# Altium footprint library Quadcopter.PcbLib: 41 footprints (part 2 of 3)
Each footprint in its own frame and in the unit in brackets; x right, y up, seen from the top. Pads: shape width x height; smd on the part's side, far side on the other; paste and mask are expansions set on the pad; w line width, h text height; cw(c..) or ccw(c..) is an arc to the next point about the centre after c.
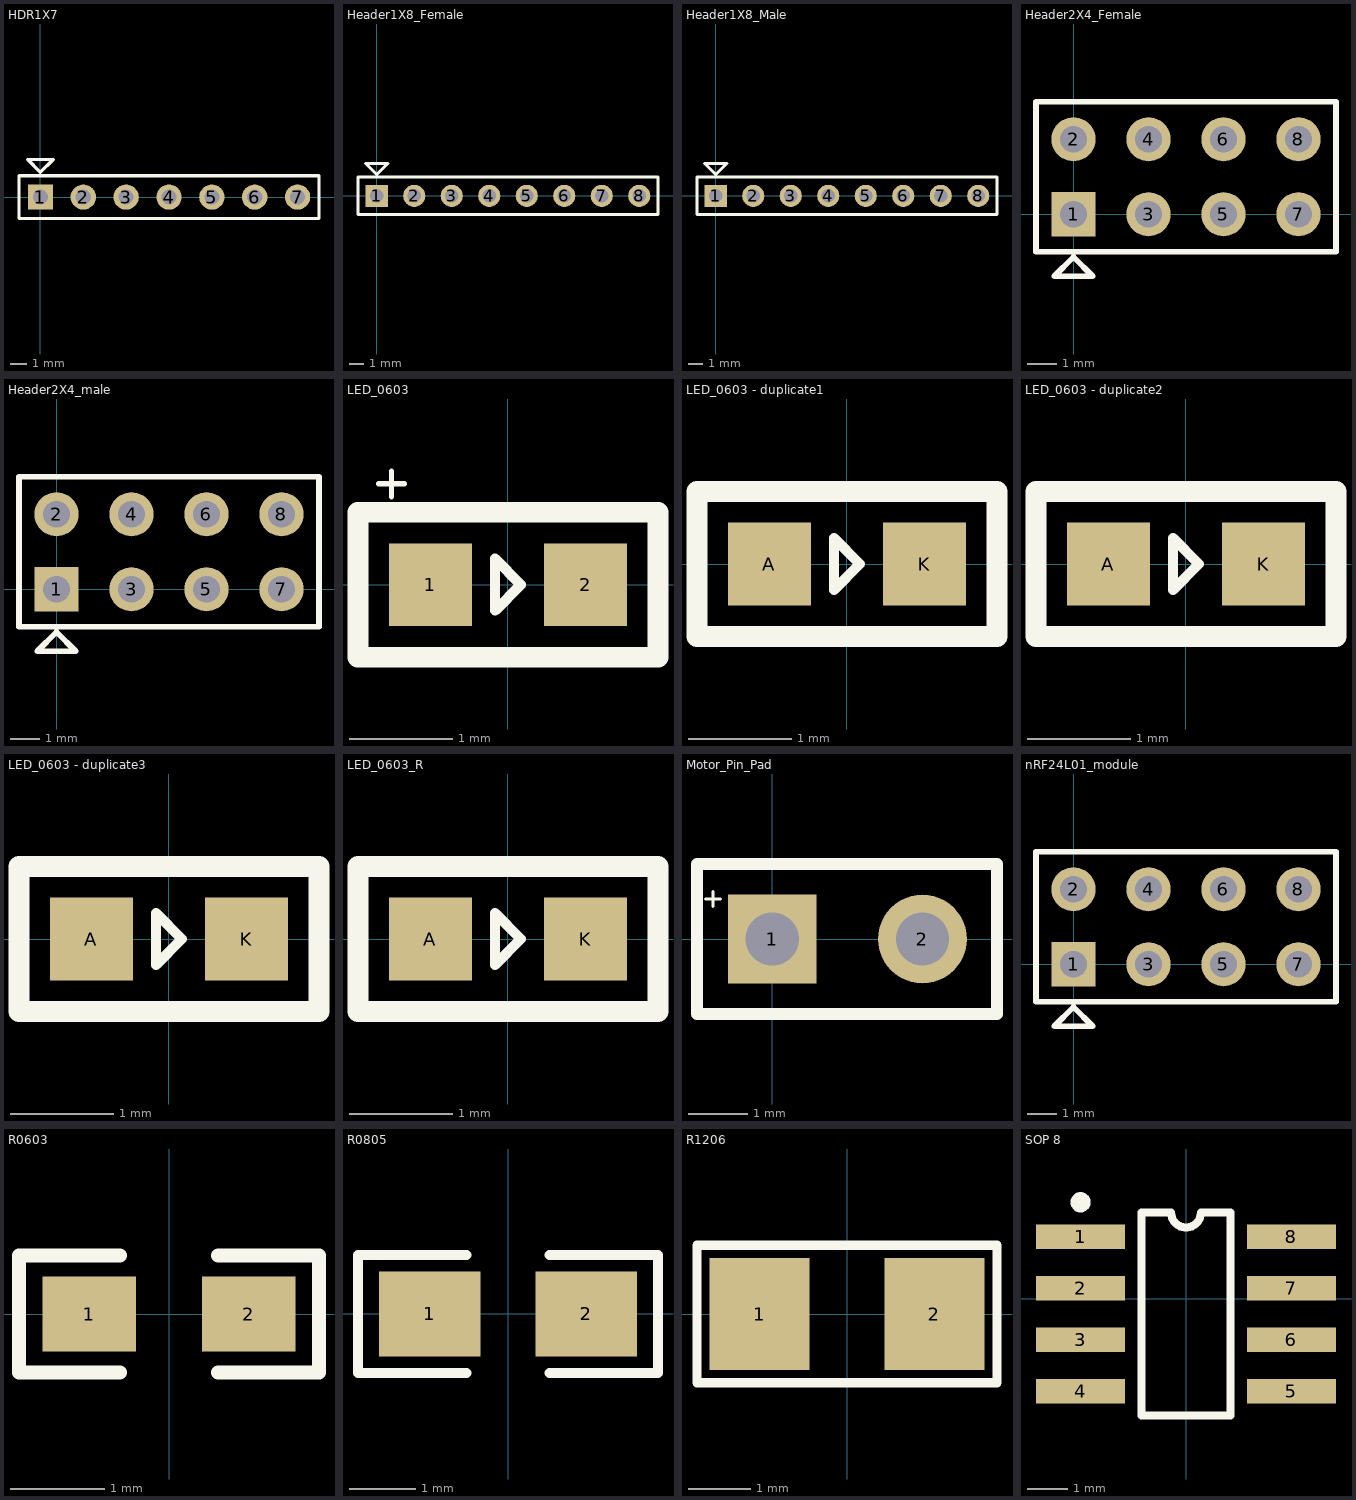
[diagram p1: the footprints below, top view; thin cyan lines are the x and y axes]

## HDR1X7 [mm] "Connector; Header; 7 Position"
pads (7):
  rect 1.5x1.5 hole 0.9: 1(0,0)
  round 1.5 hole 0.9: 2(2.54,0) 3(5.08,0) 4(7.62,0) 5(10.16,0) 6(12.7,0) 7(15.24,0)
Top Overlay:
  lines w0.2: -1.27,-1.27 16.51,-1.27 16.51,1.27 -1.27,1.27 -1.27,-1.27 ; -0.75,2.225 0,1.475 0.75,2.225 -0.75,2.225

## Header1X8_Female [mm] "Connector; Header; 8 Position"
pads (8):
  rect 1.5x1.5 hole 0.9: 1(0,0)
  round 1.5 hole 0.9: 2(2.54,0) 3(5.08,0) 4(7.62,0) 5(10.16,0) 6(12.7,0) 7(15.24,0) 8(17.78,0)
Top Overlay:
  lines w0.2: -1.27,-1.27 -1.27,1.27 19.05,1.27 19.05,-1.27 -1.27,-1.27 ; -0.75,2.2 0.75,2.2 0,1.45 -0.75,2.2

## Header1X8_Male [mm] "Connector; Header; 8 Position"
pads (8):
  rect 1.5x1.5 hole 0.9: 1(0,0)
  round 1.5 hole 0.9: 2(2.54,0) 3(5.08,0) 4(7.62,0) 5(10.16,0) 6(12.7,0) 7(15.24,0) 8(17.78,0)
Top Overlay:
  lines w0.2: -1.27,-1.27 19.05,-1.27 19.05,1.27 -1.27,1.27 -1.27,-1.27 ; -0.75,2.2 0.75,2.2 0,1.45 -0.75,2.2
3D body "Header_Male_8Pin.STEP": height 8.54, standoff -3, extent -1.27,-1.245 19.05,1.245

## Header2X4_Female [mm] "Header2X4 female"
pads (8):
  rect 1.5x1.5 hole 0.9: 1(0,0)
  round 1.5 hole 0.9: 2(0,2.54) 3(2.54,0) 4(2.54,2.54) 5(5.08,0) 6(5.08,2.54) 7(7.62,0) 8(7.62,2.54)
Top Overlay:
  lines w0.2: -1.27,-1.27 -1.27,3.81 8.89,3.81 8.89,-1.27 -1.27,-1.27 ; -0.65,-2.1 0,-1.45 0.65,-2.1 -0.65,-2.1
3D body "2X4_female.STEP": height 8.5, standoff -3.1, extent -1.27,-1.27 8.89,3.81

## Header2X4_male [mm] "Header2X4 male"
pads (8):
  rect 1.5x1.5 hole 0.9: 1(0,0)
  round 1.5 hole 0.9: 2(0,2.54) 3(2.54,0) 4(2.54,2.54) 5(5.08,0) 6(5.08,2.54) 7(7.62,0) 8(7.62,2.54)
Top Overlay:
  lines w0.2: -1.27,-1.27 8.89,-1.27 8.89,3.81 -1.27,3.81 -1.27,-1.27 ; -0.65,-2.1 0.65,-2.1 0,-1.45 -0.65,-2.1
3D body "User Library-Header_Male_4Pin.STEP": height 8.54, standoff -3, extent -1.27,-1.245 8.89,1.245
3D body "User Library-Header_Male_4Pin.STEP": height 8.54, standoff -3, extent -1.27,1.295 8.89,3.785

## LED_0603 [mm]
pads (2):
  rect 0.8x0.8 smd: 1(-0.75,0) 2(0.75,0)
Top Overlay:
  lines w0.05: -1.25,0.975 -1,0.975 ; -1.125,0.85 -1.125,1.1
  lines w0.1: -0.125,-0.25 0.125,0 -0.125,0.25 ; -0.125,-0.25 -0.125,-0.25 ; -0.125,-0.25 -0.125,0.25 ; -0.125,0.25 -0.125,0.25
  lines w0.2: -1.45,-0.7 1.45,-0.7 1.45,0.7 -1.45,0.7 -1.45,0 -1.45,-0.7
3D body "User Library-LED 0603.STEP": height 0.7, standoff 0, extent -0.8,-0.4 0.801,0.4

## LED_0603 - duplicate1 [mm]
pads (2):
  rect 0.8x0.8 smd: A(-0.75,0) K(0.75,0)
Top Overlay:
  lines w0.1: -0.125,-0.25 -0.125,0.25 ; -0.125,-0.25 -0.125,-0.25 ; -0.125,-0.25 0.125,0 -0.125,0.25 ; -0.125,0.25 -0.125,0.25
  lines w0.2: -1.45,-0.7 -1.45,0 -1.45,0.7 1.45,0.7 1.45,-0.7 -1.45,-0.7

## LED_0603 - duplicate2 [mm]
pads (2):
  rect 0.8x0.8 smd: A(-0.75,0) K(0.75,0)
Top Overlay:
  lines w0.1: -0.125,-0.25 0.125,0 -0.125,0.25 ; -0.125,-0.25 -0.125,-0.25 ; -0.125,-0.25 -0.125,0.25 ; -0.125,0.25 -0.125,0.25
  lines w0.2: -1.45,-0.7 1.45,-0.7 1.45,0.7 -1.45,0.7 -1.45,0 -1.45,-0.7

## LED_0603 - duplicate3 [mm]
pads (2):
  rect 0.8x0.8 smd: A(-0.75,0) K(0.75,0)
Top Overlay:
  lines w0.1: -0.125,-0.25 0.125,0 -0.125,0.25 ; -0.125,-0.25 -0.125,-0.25 ; -0.125,-0.25 -0.125,0.25 ; -0.125,0.25 -0.125,0.25
  lines w0.2: -1.45,-0.7 1.45,-0.7 1.45,0.7 -1.45,0.7 -1.45,0 -1.45,-0.7

## LED_0603_R [mm]
pads (2):
  rect 0.8x0.8 smd: A(-0.75,0) K(0.75,0)
Top Overlay:
  lines w0.1: -0.125,-0.25 -0.125,0.25 ; -0.125,-0.25 -0.125,-0.25 ; -0.125,-0.25 0.125,0 -0.125,0.25 ; -0.125,0.25 -0.125,0.25
  lines w0.2: -1.45,-0.7 -1.45,0 -1.45,0.7 1.45,0.7 1.45,-0.7 -1.45,-0.7

## Motor_Pin_Pad [mm] "Connector; Header; 2 Position"
pads (2):
  rect 1.5x1.5 hole 0.9: 1(0,0)
  round 1.5 hole 0.9: 2(2.54,0)
Top Overlay:
  lines w0.05: -1.125,0.675 -0.875,0.675 ; -1,0.55 -1,0.8
  lines w0.2: -1.27,-1.27 3.8,-1.27 3.8,1.27 -1.27,1.27 -1.27,-1.27

## nRF24L01_module [mm] "nRF24L01_module"
pads (8):
  rect 1.5x1.5 hole 0.9: 1(0,0)
  round 1.5 hole 0.9: 2(0,2.54) 3(2.54,0) 4(2.54,2.54) 5(5.08,0) 6(5.08,2.54) 7(7.62,0) 8(7.62,2.54)
Top Overlay:
  lines w0.2: -1.27,-1.27 -1.27,3.81 8.89,3.81 8.89,-1.27 -1.27,-1.27 ; -0.65,-2.1 0,-1.45 0.65,-2.1 -0.65,-2.1
3D body "User Library-MY-NRF24L01P.STEP": height 15, standoff 0.09, extent -1.575,-1.675 13.425,27.325

## R0603 [mm]
pads (2):
  rect 1x0.8 smd: 1(-0.85,0) 2(0.85,0)
Top Overlay:
  lines w0.15: -0.525,-0.625 -1.6,-0.625 -1.6,0.625 -0.525,0.625 ; 0.525,-0.625 1.6,-0.625 1.6,0.625 0.525,0.625
3D body: height 0.4, standoff 0, extent -0.787,-0.381 -0.489,0.381
3D body: height 0.4, standoff 0, extent 0.489,-0.381 0.787,0.381
3D body: height 0.4, standoff 0, extent -0.489,-0.381 0.489,0.381

## R0805 [mm]
pads (2):
  rect 1.524x1.27 smd: 1(-1.175,0) 2(1.175,0)
Top Overlay:
  lines w0.15: -0.625,-0.887 -2.25,-0.887 -2.25,0.887 -0.625,0.887 ; 0.625,-0.888 2.25,-0.888 2.25,0.887 0.625,0.887
3D body: height 0.5, standoff 0, extent -1,-0.6 -0.595,0.6
3D body: height 0.5, standoff 0, extent 0.595,-0.6 1,0.6
3D body: height 0.5, standoff 0, extent -0.595,-0.6 0.595,0.6

## R1206 [mm]
pads (2):
  rect 1.6x1.8 smd: 1(-1.4,0) 2(1.4,0)
Top Overlay:
  lines w0.15: -2.4,-1.1 2.4,-1.1 2.4,1.1 -2.4,1.1 -2.4,0 -2.4,-1.1
3D body: height 0.55, standoff 0, extent -1.6,-0.8 -1.1,0.8
3D body: height 0.55, standoff 0, extent 1.1,-0.8 1.6,0.8
3D body: height 0.55, standoff 0, extent -1.1,-0.8 1.1,0.8

## SOP 8 [mm]
pads (8):
  rect 2.2x0.6 smd: 1(-2.6,1.524) 2(-2.6,0.254) 3(-2.6,-1.016) 4(-2.6,-2.286) 5(2.6,-2.286) 6(2.6,-1.016) 7(2.6,0.254) 8(2.6,1.524)
Top Overlay:
  circle w0.25: c-2.6,2.374 r0.125
  lines w0.2: -1.1,-2.881 1.1,-2.881 1.1,2.119 0.367,2.119 cw(c0,2.119) -0.367,2.119 -1.1,2.119 -1.1,-2.881